# EAGLE library part LMP7721MA_NOPB (library SamacSys_Parts)
3 Femtoampere Input Bias Current Precision Amplifier Source: Datasheet <http://www.ti.com/lit/ds/symlink/lmp7721.pdf>
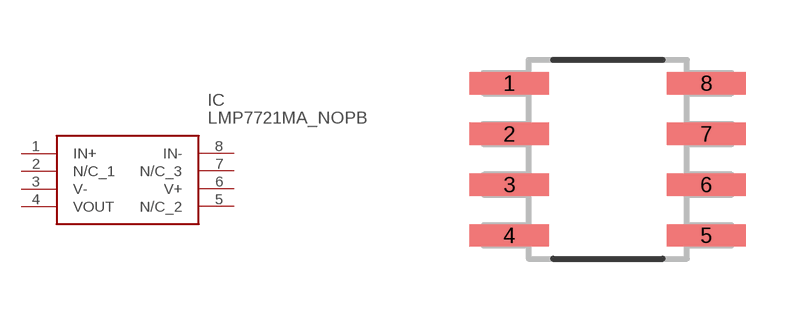
[diagram p19: symbol with the pads of SOIC127P600X175-8N; footprint SOIC127P600X175-8N]

Designator prefix IC

## LMP7721MA_NOPB (DESCRIPTION: 3 Femtoampere Input Bias Current Precision Amplifier; HEIGHT: 1.75mm; MANUFACTURER_NAME: Texas Instruments; MANUFACTURER_PART_NUMBER: LMP7721MA/NOPB; MOUSER_PART_NUMBER: 926-LMP7721MA/NOPB; MOUSER_PRICE-STOCK: https://www.mouser.com/Search/Refine.aspx?Keyword=926-LMP7721MA%2FNOPB; RS_PART_NUMBER: 0517224; RS_PRICE-STOCK: http://uk.rs-online.com/web/p/products/0517224)  [SOIC127P600X175-8N]
1  IN+  in
2  N/C_1
3  V-
4  VOUT  out
5  N/C_2
6  V+
7  N/C_3
8  IN-  in

## Footprint SOIC127P600X175-8N (pad centres in mm)
SOIC127P600X175-8N
smd 1.981 x 0.559: 1 -2.464,1.905; 2 -2.464,0.635; 3 -2.464,-0.635; 4 -2.464,-1.905; 5 2.464,-1.905; 6 2.464,-0.635; 7 2.464,0.635; 8 2.464,1.905